# Altium footprint library 4x2.54mm_header_vertical_male.PcbLib: 1 footprints
Each footprint in its own frame and in the unit in brackets; x right, y up, seen from the top. Pads: shape width x height; smd on the part's side, far side on the other; paste and mask are expansions set on the pad; w line width, h text height; cw(c..) or ccw(c..) is an arc to the next point about the centre after c.
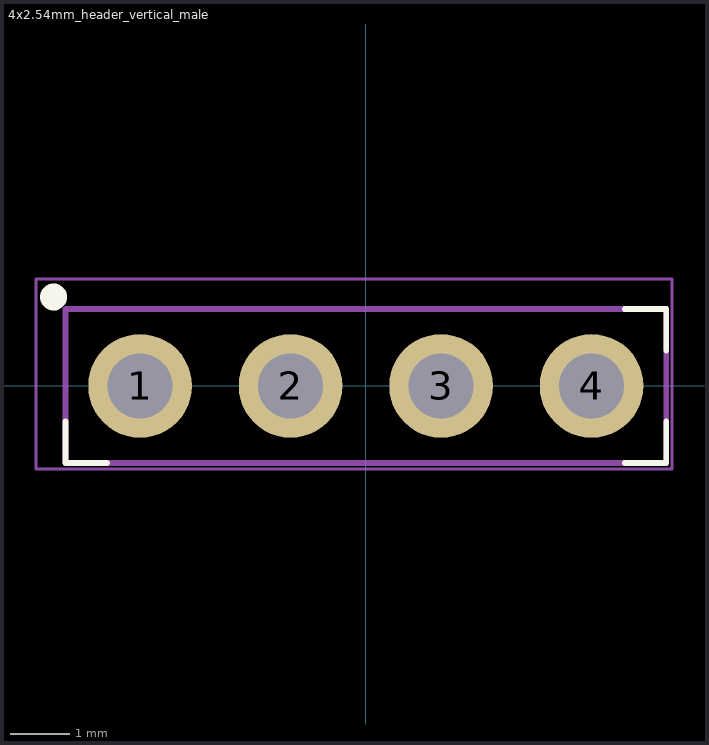
[diagram p0: the footprint, top view; thin cyan lines are the x and y axes]

## 4x2.54mm_header_vertical_male [mm]
pads (4):
  round 1.75 hole 1.1: 1(-3.81,0) 2(-1.27,0) 3(1.27,0) 4(3.81,0)
Top Overlay:
  circle w0.254: c-5.27,1.5 r0.1
  lines w0.1: -5.07,-0.6 -5.07,-1.3 -4.37,-1.3 ; 4.37,-1.3 5.07,-1.3 5.07,-0.6 ; 4.37,1.3 5.07,1.3 5.07,0.6
Mechanical 1:
  lines w0.1: -5.07,-1.3 5.07,-1.3 5.07,1.3 -5.07,1.3 -5.07,-1.3
  text ".Designator" at -3.375,-0.158 h0.65
Mechanical 2:
  lines w0.05: -5.57,-1.4 -5.57,1.8 5.17,1.8 5.17,-1.4 -5.57,-1.4
  lines w0.1: -1.77,0 -0.77,0 ; -1.27,-0.5 -1.27,0.5
3D body "61300411121_Download_STP_61300411121_rev1.stp": height 8.57, standoff -2.97, extent -5.08,-1.27 5.08,1.27